# Altium schematic symbol library SYM-IC.SchLib: 136 symbols (part 6 of 7)
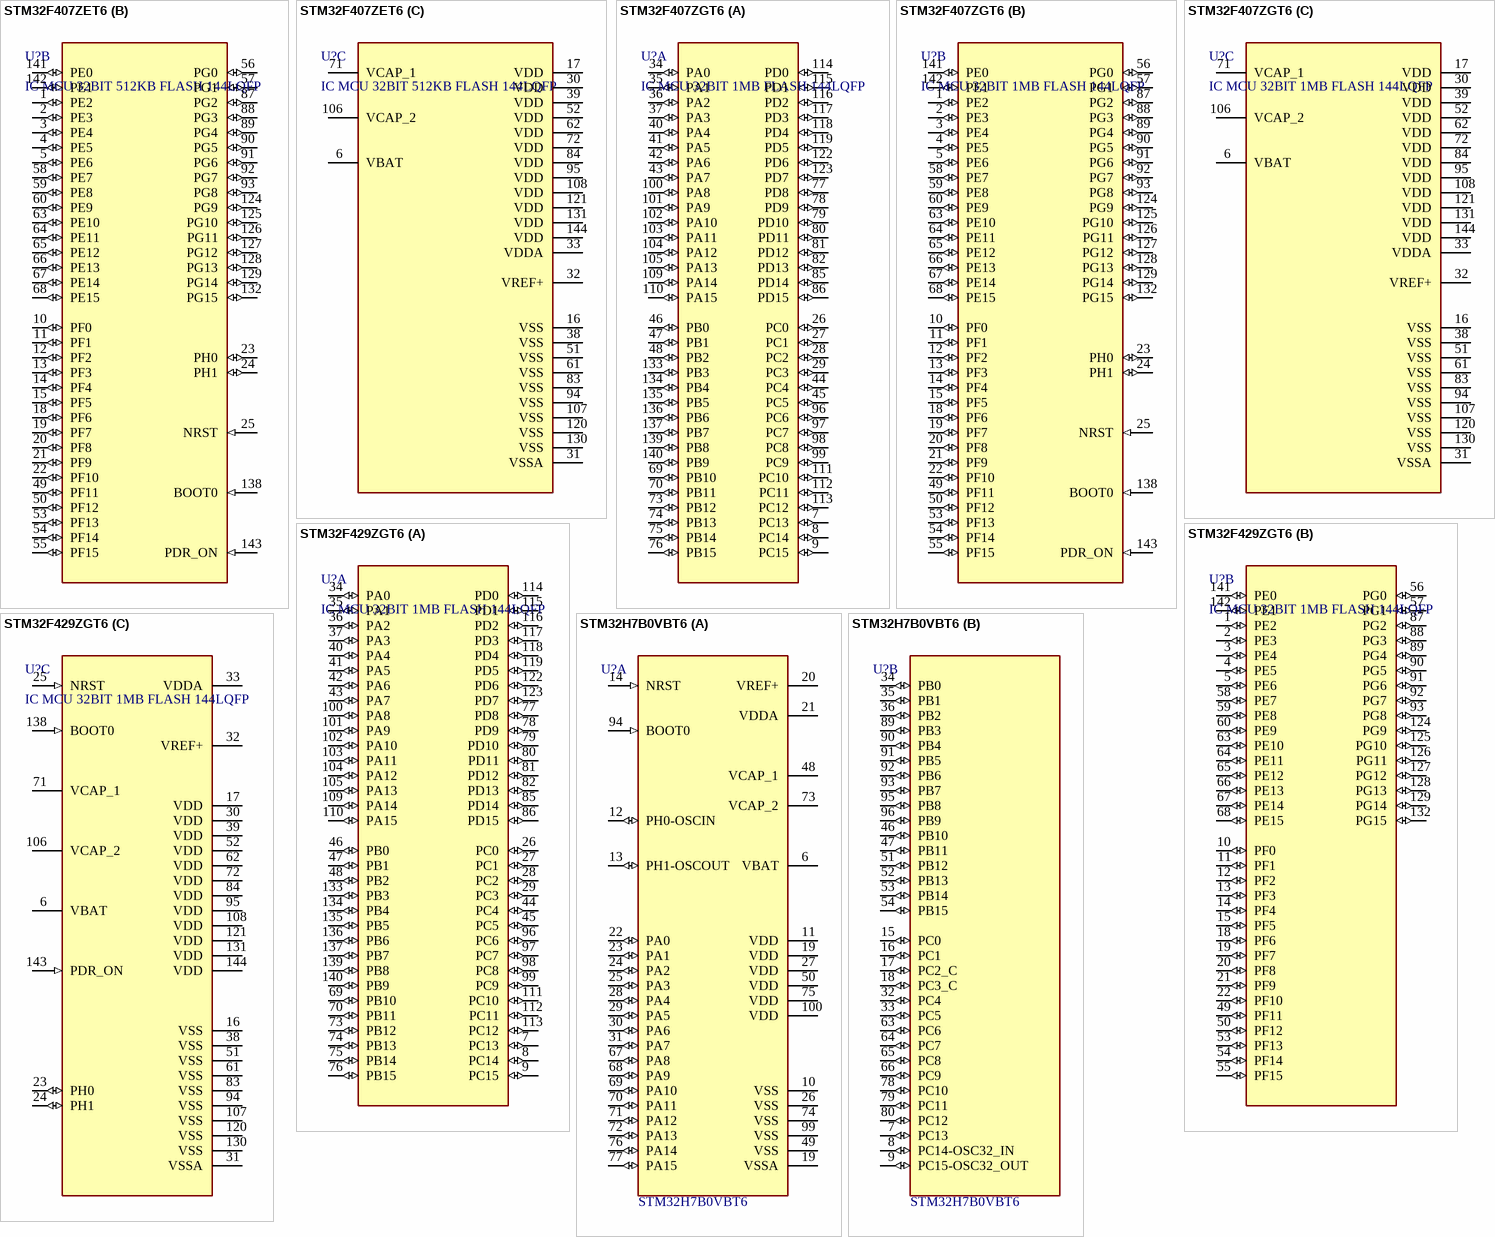
[diagram p22: symbols STM32F407ZET6 to STM32H7B0VBT6]

## STM32F429ZGT6
designator U?, comment IC MCU 32BIT 1MB FLASH 144LQFP
ARM® Cortex®-M4 STM32 F4 Microcontroller IC 32-Bit 180MHz 1MB (1M x 8) FLASH; Manufacturer: STMicroelectronics; Manufacturer Part Number: STM32F429ZGT6; Max Supply Voltage: 3.6V; Min Supply Voltage: 1.8V; Number of Timers/Counters: 14; RAM Size: 256KB; Number of I/Os: 114; Interface: I2C,SPI,USB,CAN,IrDA,UART,USART,LIN,EBI/EMI,SDIO,Ethernet,I2S; Max Power Dissipation: 500mW; Number of ADC Channels: 24; Oscillator Type: Internal; Data Bus Width: 32b; Number of USB Channels: 2; Number of SPI Channels: 6; Number of Ethernet Channels: 1; Number of I2C Channels: 3; Watchdog Timer: Yes; Number of UART Channels: 4; Peripherals: Brown-out Detect/Reset,POR,PWM,WDT,DMA,LCD; Core Architecture: ARM; Supplier 1: Digi-Key; RoHS: Yes; Category: Microcontrollers; Pricing 1: 1=19/60000, 10=18/00900, 60=17/26250, 120=15/55183 (USD); Case/Package: LQFP; Number of Pins: 144; Min Operating Temperature: -40°C; Max Operating Temperature: 85°C; Package Quantity: 360; Packaging: Tray; Frequency: 180MHz; Max Frequency: 180MHz; Number of Programmable I/O: 114; Memory Type: FLASH; Memory Size: 1MB; Length: 20.2mm; Width: 20.2mm; Height: 1.45mm; Radiation Hardening: No; REACH SVHC: No SVHC; Lead Free: Lead Free; RoHS Compliant: Yes; ComponentLink1URL: https://datasheet.ciiva.com/24182/dm00071990-24182832.pdf?src-supplier=Future+Electronics; ComponentLink1Description: https://datasheet.ciiva.com/24182/dm00071990-24182832.pdf?src-supplier=Future+Electronics; ComponentLink2URL: https://datasheet.ciiva.com/29719/dm00053488-29719336.pdf?src-supplier=Digi-Key; ComponentLink2Description: https://datasheet.ciiva.com/29719/dm00053488-29719336.pdf?src-supplier=Digi-Key; ComponentLink3URL: https://datasheet.ciiva.com/29987/dm00071990-29987069.pdf?src-supplier=Avnet; ComponentLink3Description: https://datasheet.ciiva.com/29987/dm00071990-29987069.pdf?src-supplier=Avnet; Supplier Part Number 1: 497-17461-ND
footprint TSQFP50P2200X2200X160-144N (TSQFP, 144-Leads, Body 20/00x20/00mm, Pitch 0/50mm, IPC Medium Density)
part A pins: 7 PC13 (io), 8 PC14 (io), 9 PC15 (io), 26 PC0 (io), 27 PC1 (io), 28 PC2 (io), 29 PC3 (io), 34 PA0 (io), 35 PA1 (io), 36 PA2 (io), 37 PA3 (io), 40 PA4 (io), 41 PA5 (io), 42 PA6 (io), 43 PA7 (io), 44 PC4 (io), 45 PC5 (io), 46 PB0 (io), 47 PB1 (io), 48 PB2 (io), 69 PB10 (io), 70 PB11 (io), 73 PB12 (io), 74 PB13 (io), 75 PB14 (io), 76 PB15 (io), 77 PD8 (io), 78 PD9 (io), 79 PD10 (io), 80 PD11 (io), 81 PD12 (io), 82 PD13 (io), 85 PD14 (io), 86 PD15 (io), 96 PC6 (io), 97 PC7 (io), 98 PC8 (io), 99 PC9 (io), 100 PA8 (io), 101 PA9 (io), 102 PA10 (io), 103 PA11 (io), 104 PA12 (io), 105 PA13 (io), 109 PA14 (io), 110 PA15 (io), 111 PC10 (io), 112 PC11 (io), 113 PC12 (io), 114 PD0 (io), 115 PD1 (io), 116 PD2 (io), 117 PD3 (io), 118 PD4 (io), 119 PD5 (io), 122 PD6 (io), 123 PD7 (io), 133 PB3 (io), 134 PB4 (io), 135 PB5 (io), 136 PB6 (io), 137 PB7 (io), 139 PB8 (io), 140 PB9 (io)
part B pins: 1 PE2 (io), 2 PE3 (io), 3 PE4 (io), 4 PE5 (io), 5 PE6 (io), 10 PF0 (io), 11 PF1 (io), 12 PF2 (io), 13 PF3 (io), 14 PF4 (io), 15 PF5 (io), 18 PF6 (io), 19 PF7 (io), 20 PF8 (io), 21 PF9 (io), 22 PF10 (io), 49 PF11 (io), 50 PF12 (io), 53 PF13 (io), 54 PF14 (io), 55 PF15 (io), 56 PG0 (io), 57 PG1 (io), 58 PE7 (io), 59 PE8 (io), 60 PE9 (io), 63 PE10 (io), 64 PE11 (io), 65 PE12 (io), 66 PE13 (io), 67 PE14 (io), 68 PE15 (io), 87 PG2 (io), 88 PG3 (io), 89 PG4 (io), 90 PG5 (io), 91 PG6 (io), 92 PG7 (io), 93 PG8 (io), 124 PG9 (io), 125 PG10 (io), 126 PG11 (io), 127 PG12 (io), 128 PG13 (io), 129 PG14 (io), 132 PG15 (io), 141 PE0 (io), 142 PE1 (io)
part C pins: 6 VBAT (power), 16 VSS (power), 17 VDD (power), 23 PH0 (io), 24 PH1 (io), 25 NRST (in), 30 VDD (power), 31 VSSA (power), 32 VREF+ (power), 33 VDDA (power), 38 VSS (power), 39 VDD (power), 51 VSS (power), 52 VDD (power), 61 VSS (power), 62 VDD (power), 71 VCAP_1 (power), 72 VDD (power), 83 VSS (power), 84 VDD (power), 94 VSS (power), 95 VDD (power), 106 VCAP_2 (power), 107 VSS (power), 108 VDD (power), 120 VSS (power), 121 VDD (power), 130 VSS (power), 131 VDD (power), 138 BOOT0 (in), 143 PDR_ON (in), 144 VDD (power)

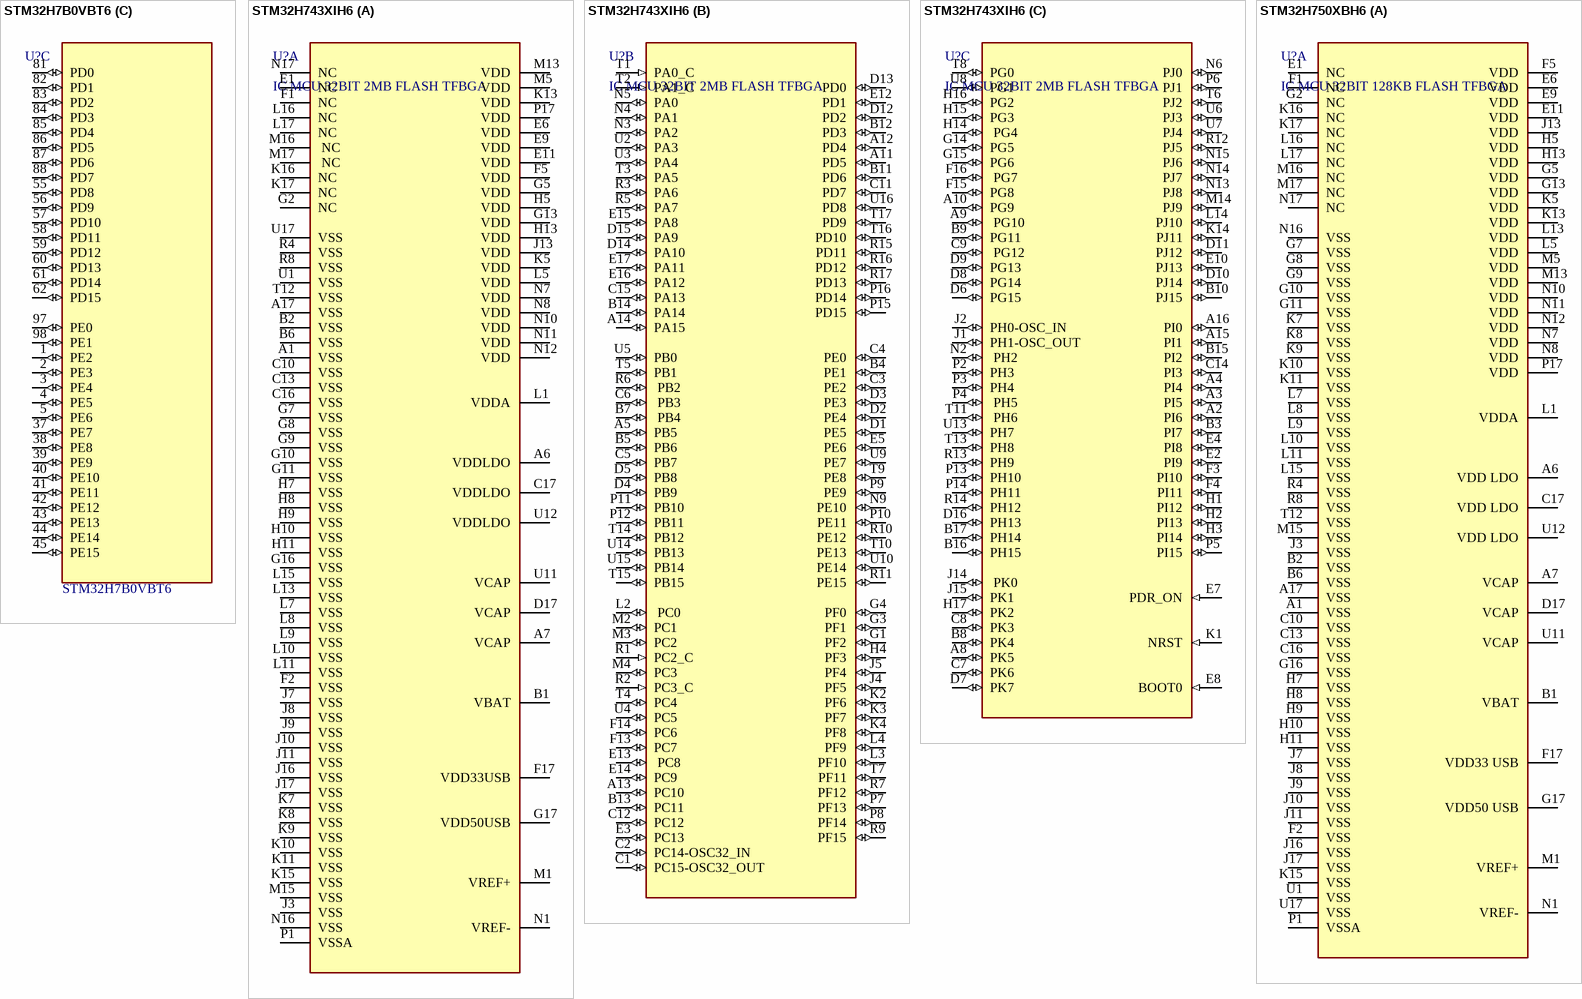
[diagram p9: symbols STM32H7B0VBT6 to STM32H750XBH6]

## STM32H7B0VBT6
designator U?, comment Manufacturer Part Number: STM32H7B0VBT6  (hidden comment: IC MCU 32BIT 128KB FLASH 100LQFP)
MCU 32-bit ARM Cortex M7 RISC 128KB Flash 1.8V/2.5V/3.3V Medical 100-Pin LQFP Tray/Tube; Manufacturer: STMicroelectronics; Supplier 1: Digi-Key; RoHS: Yes; Category: Microcontrollers; Pricing 1: 1=12/27000, 10=11/08500, 25=10/56960, 90=9/17756, 270=8/76507, 450=7/99167, 990=7/03080 (USD); Supplier Part Number 1: 497-STM32H7B0VBT6-ND
footprint TSQFP50P1600X1600X160-100N (TSQFP, 100-Leads, Body 14/00x14/00mm, Pitch 0/50mm, IPC Medium Density)
part A pins: 6 VBAT (power), 10 VSS (power), 11 VDD (power), 12 PH0-OSCIN (io), 13 PH1-OSCOUT (io), 14 NRST (in), 19 VDD (power), 19 VSSA (power), 20 VREF+ (power), 21 VDDA (power), 22 PA0 (io), 23 PA1 (io), 24 PA2 (io), 25 PA3 (io), 26 VSS (power), 27 VDD (power), 28 PA4 (io), 29 PA5 (io), 30 PA6 (io), 31 PA7 (io), 48 VCAP_1 (power), 49 VSS (power), 50 VDD (power), 67 PA8 (io), 68 PA9 (io), 69 PA10 (io), 70 PA11 (io), 71 PA12 (io), 72 PA13 (io), 73 VCAP_2 (power), 74 VSS (power), 75 VDD (power), 76 PA14 (io), 77 PA15 (io), 94 BOOT0 (in), 99 VSS (power), 100 VDD (power)
part B pins: 7 PC13 (io), 8 PC14-OSC32_IN (io), 9 PC15-OSC32_OUT (io), 15 PC0 (io), 16 PC1 (io), 17 PC2_C (io), 18 PC3_C (io), 32 PC4 (io), 33 PC5 (io), 34 PB0 (io), 35 PB1 (io), 36 PB2 (io), 46 PB10 (io), 47 PB11 (io), 51 PB12 (io), 52 PB13 (io), 53 PB14 (io), 54 PB15 (io), 63 PC6 (io), 64 PC7 (io), 65 PC8 (io), 66 PC9 (io), 78 PC10 (io), 79 PC11 (io), 80 PC12 (io), 89 PB3 (io), 90 PB4 (io), 91 PB5 (io), 92 PB6 (io), 93 PB7 (io), 95 PB8 (io), 96 PB9 (io)
part C pins: 1 PE2 (io), 2 PE3 (io), 3 PE4 (io), 4 PE5 (io), 5 PE6 (io), 37 PE7 (io), 38 PE8 (io), 39 PE9 (io), 40 PE10 (io), 41 PE11 (io), 42 PE12 (io), 43 PE13 (io), 44 PE14 (io), 45 PE15 (io), 55 PD8 (io), 56 PD9 (io), 57 PD10 (io), 58 PD11 (io), 59 PD12 (io), 60 PD13 (io), 61 PD14 (io), 62 PD15 (io), 81 PD0 (io), 82 PD1 (io), 83 PD2 (io), 84 PD3 (io), 85 PD4 (io), 86 PD5 (io), 87 PD6 (io), 88 PD7 (io), 97 PE0 (io), 98 PE1 (io)

## STM32H743XIH6
designator U?, comment IC MCU 32BIT 2MB FLASH TFBGA
MCU 32-Bit STM32H743XI ARM Cortex M7 RISC 2MB Flash 1.62V to 3.6V 265-Pin TFBGA Tray; Manufacturer: STMicroelectronics; Manufacturer Part Number: STM32H743XIH6; Interface: I2C,SPI,USB,Ethernet,IrDA,MMC,SDIO,SD,UART,USART,EBI/EMI; Peripherals: Brown-out Detect/Reset,POR,PWM,WDT,DMA,LCD; Frequency: 400MHz; Number of I/Os: 168; Oscillator Type: Internal; Supplier 1: Digi-Key; RoHS: Yes; Category: Microcontrollers; Pricing 1: 1=20/95000, 10=19/25700, 25=18/45880, 119=16/62958 (USD); Case/Package: TFBGA; Min Operating Temperature: -40°C; Max Operating Temperature: 85°C; Memory Type: FLASH; Packaging: Tray; Core Architecture: ARM; Memory Size: 2MB; RoHS Compliant: Yes; ComponentLink1URL: http://www.farnell.com/datasheets/2551152.pdf?src-supplier=Farnell; ComponentLink1Description: http://www.farnell.com/datasheets/2551152.pdf?src-supplier=Farnell; ComponentLink2URL: http://www.st.com/content/ccc/resource/technical/document/datasheet/group3/23/be/db/eb/29/39/4b/eb/DM00387108/files/DM00387108.pdf/jcr:content/translations/en.DM00387108.pdf?src-supplier=Digi-Key; ComponentLink2Description: http://www.st.com/content/ccc/resource/technical/document/datasheet/group3/23/be/db/eb/29/39/4b/eb/DM00387108/files/DM00387108.pdf/jcr:content/translations/en.DM00387108.pdf?src-supplier=Digi-Key; ComponentLink3URL: http://www.farnell.com/datasheets/2551152.pdf?src-supplier=Element14; ComponentLink3Description: http://www.farnell.com/datasheets/2551152.pdf?src-supplier=Element14; ComponentLink4URL: http://www.farnell.com/datasheets/2551152.pdf?src-supplier=Newark; ComponentLink4Description: http://www.farnell.com/datasheets/2551152.pdf?src-supplier=Newark; Supplier Part Number 1: 497-17724-ND
footprint BGA265C80P17X17_1400X1400X110 (BGA, 265-Leads, Body 14/00x14/00mmx1/10mm, Pitch 0/80mm)
part A pins: A1 VSS (power), A6 VDDLDO (power), A7 VCAP (power), A17 VSS (power), B1 VBAT (power), B2 VSS (power), B6 VSS (power), C10 VSS (power), C13 VSS (power), C16 VSS (power), C17 VDDLDO (power), D17 VCAP (power), E1 NC (power), E6 VDD (power), E9 VDD (power), E11  VDD (power), F1 NC (power), F2 VSS (power), F5 VDD (power), F17 VDD33USB (power), G2 NC (power), G5 VDD (power), G7 VSS (power), G8 VSS (power), G9 VSS (power), G10 VSS (power), G11 VSS (power), G13 VDD (power), G16 VSS (power), G17 VDD50USB (power), H5 VDD (power), H7 VSS (power), H8 VSS (power), H9 VSS (power), H10 VSS (power), H11 VSS (power), H13 VDD (power), J3 VSS (power), J7 VSS (power), J8 VSS (power), J9 VSS (power), J10 VSS (power), J11 VSS (power), J13 VDD (power), J16 VSS (power), J17 VSS (power), K5 VDD (power), K7 VSS (power), K8 VSS (power), K9 VSS (power), K10 VSS (power), K11 VSS (power), K13 VDD (power), K15 VSS (power), K16 NC (power), K17 NC (power), L1 VDDA (power), L5 VDD (power), L7 VSS (power), L8 VSS (power), L9 VSS (power), L10 VSS (power), L11 VSS (power), L13 VSS (power), L15 VSS (power), L16 NC (power), L17 NC (power), M1 VREF+ (power), M5 VDD (power), M13 VDD (power), M15 VSS (power), M16  NC (power), M17  NC (power), N1 VREF- (power), N7 VDD (power), N8 VDD (power), N10 VDD (power), N11 VDD (power), N12 VDD (power), N16 VSS (power), N17 NC (power), P1 VSSA (power), P17  VDD (power), R4 VSS (power), R8 VSS (power), T12 VSS (power), U1 VSS (power), U11 VCAP (power), U12 VDDLDO (power), U17 VSS (power)
part B pins: A5 PB5 (io), A11 PD5 (io), A12 PD4 (io), A13 PC10 (io), A14 PA15 (io), B4 PE1 (io), B5 PB6 (io), B7  PB4 (io), B11 PD6 (io), B12 PD3 (io), B13 PC11 (io), B14 PA14 (io), C1 PC15-OSC32_OUT (io), C2 PC14-OSC32_IN (io), C3 PE2 (io), C4 PE0 (io), C5 PB7 (io), C6  PB3 (io), C11 PD7 (io), C12 PC12 (io), C15 PA13 (io), D1 PE5 (io), D2 PE4 (io), D3 PE3 (io), D4 PB9 (io), D5 PB8 (io), D12 PD2 (io), D13 PD0 (io), D14 PA10 (io), D15 PA9 (io), E3 PC13 (io), E5  PE6 (io), E12 PD1 (io), E13  PC8 (io), E14 PC9 (io), E15 PA8 (io), E16 PA12 (io), E17 PA11 (io), F13 PC7 (io), F14 PC6 (io), G1 PF2 (io), G3  PF1 (io), G4 PF0 (io), H4 PF3 (io), J4 PF5 (io), J5 PF4 (io), K2 PF6 (io), K3 PF7 (io), K4 PF8 (io), L2  PC0 (io), L3 PF10 (io), L4 PF9 (io), M2 PC1 (io), M3 PC2 (io), M4 PC3 (io), N3 PA2 (io), N4 PA1 (io), N5 PA0 (io), N9 PE10 (io), P7 PF13 (io), P8  PF14 (io), P9  PE9 (io), P10 PE11 (io), P11 PB10 (io), P12 PB11 (io), P15 PD15 (io), P16 PD14 (io), R1 PC2_C (in), R2 PC3_C (in), R3 PA6 (io), R5 PA7 (io), R6  PB2 (io), R7 PF12 (io), R9  PF15 (io), R10 PE12 (io), R11 PE15 (io), R15  PD11 (io), R16 PD12 (io), R17 PD13 (io), T1 PA0_C (in), T2 PA1_C (in), T3 PA5 (io), T4 PC4 (io), T5 PB1 (io), T7  PF11 (io), T9 PE8 (io), T10 PE13 (io), T14 PB12 (io), T15 PB15 (io), T16 PD10 (io), T17  PD9 (io), U2 PA3 (io), U3 PA4 (io), U4 PC5 (io), U5 PB0 (io), U9 PE7 (io), U10 PE14 (io), U14 PB13 (io), U15 PB14 (io), U16 PD8 (io)
part C pins: A2 PI6 (io), A3 PI5 (io), A4 PI4 (io), A8 PK5 (io), A9  PG10 (io), A10 PG9 (io), A15 PI1 (io), A16 PI0 (io), B3 PI7 (io), B8 PK4 (io), B9 PG11 (io), B10 PJ15 (io), B15  PI2 (io), B16 PH15 (io), B17 PH14 (io), C7 PK6 (io), C8 PK3 (io), C9  PG12 (io), C14 PI3 (io), D6 PG15 (io), D7 PK7 (io), D8 PG14 (io), D9 PG13 (io), D10 PJ14 (io), D11 PJ12 (io), D16 PH13 (io), E2 PI9 (io), E4 PI8 (io), E7 PDR_ON (in), E8 BOOT0 (in), E10 PJ13 (io), F3  PI10 (io), F4 PI11 (io), F15 PG8 (io), F16  PG7 (io), G14 PG5 (io), G15 PG6 (io), H1 PI12 (io), H2 PI13 (io), H3 PI14 (io), H14  PG4 (io), H15 PG3 (io), H16 PG2 (io), H17 PK2 (io), J1 PH1-OSC_OUT (io), J2 PH0-OSC_IN (io), J14  PK0 (io), J15 PK1 (io), K1 NRST (in), K14 PJ11 (io), L14 PJ10 (io), M14 PJ9 (io), N2  PH2 (io), N6 PJ0 (io), N13 PJ8 (io), N14 PJ7 (io), N15 PJ6 (io), P2 PH3 (io), P3 PH4 (io), P4  PH5 (io), P5 PI15 (io), P6  PJ1 (io), P13 PH10 (io), P14 PH11 (io), R12 PJ5 (io), R13 PH9 (io), R14 PH12 (io), T6 PJ2 (io), T8 PG0 (io), T11  PH6 (io), T13 PH8 (io), U6 PJ3 (io), U7 PJ4 (io), U8 PG1 (io), U13 PH7 (io)

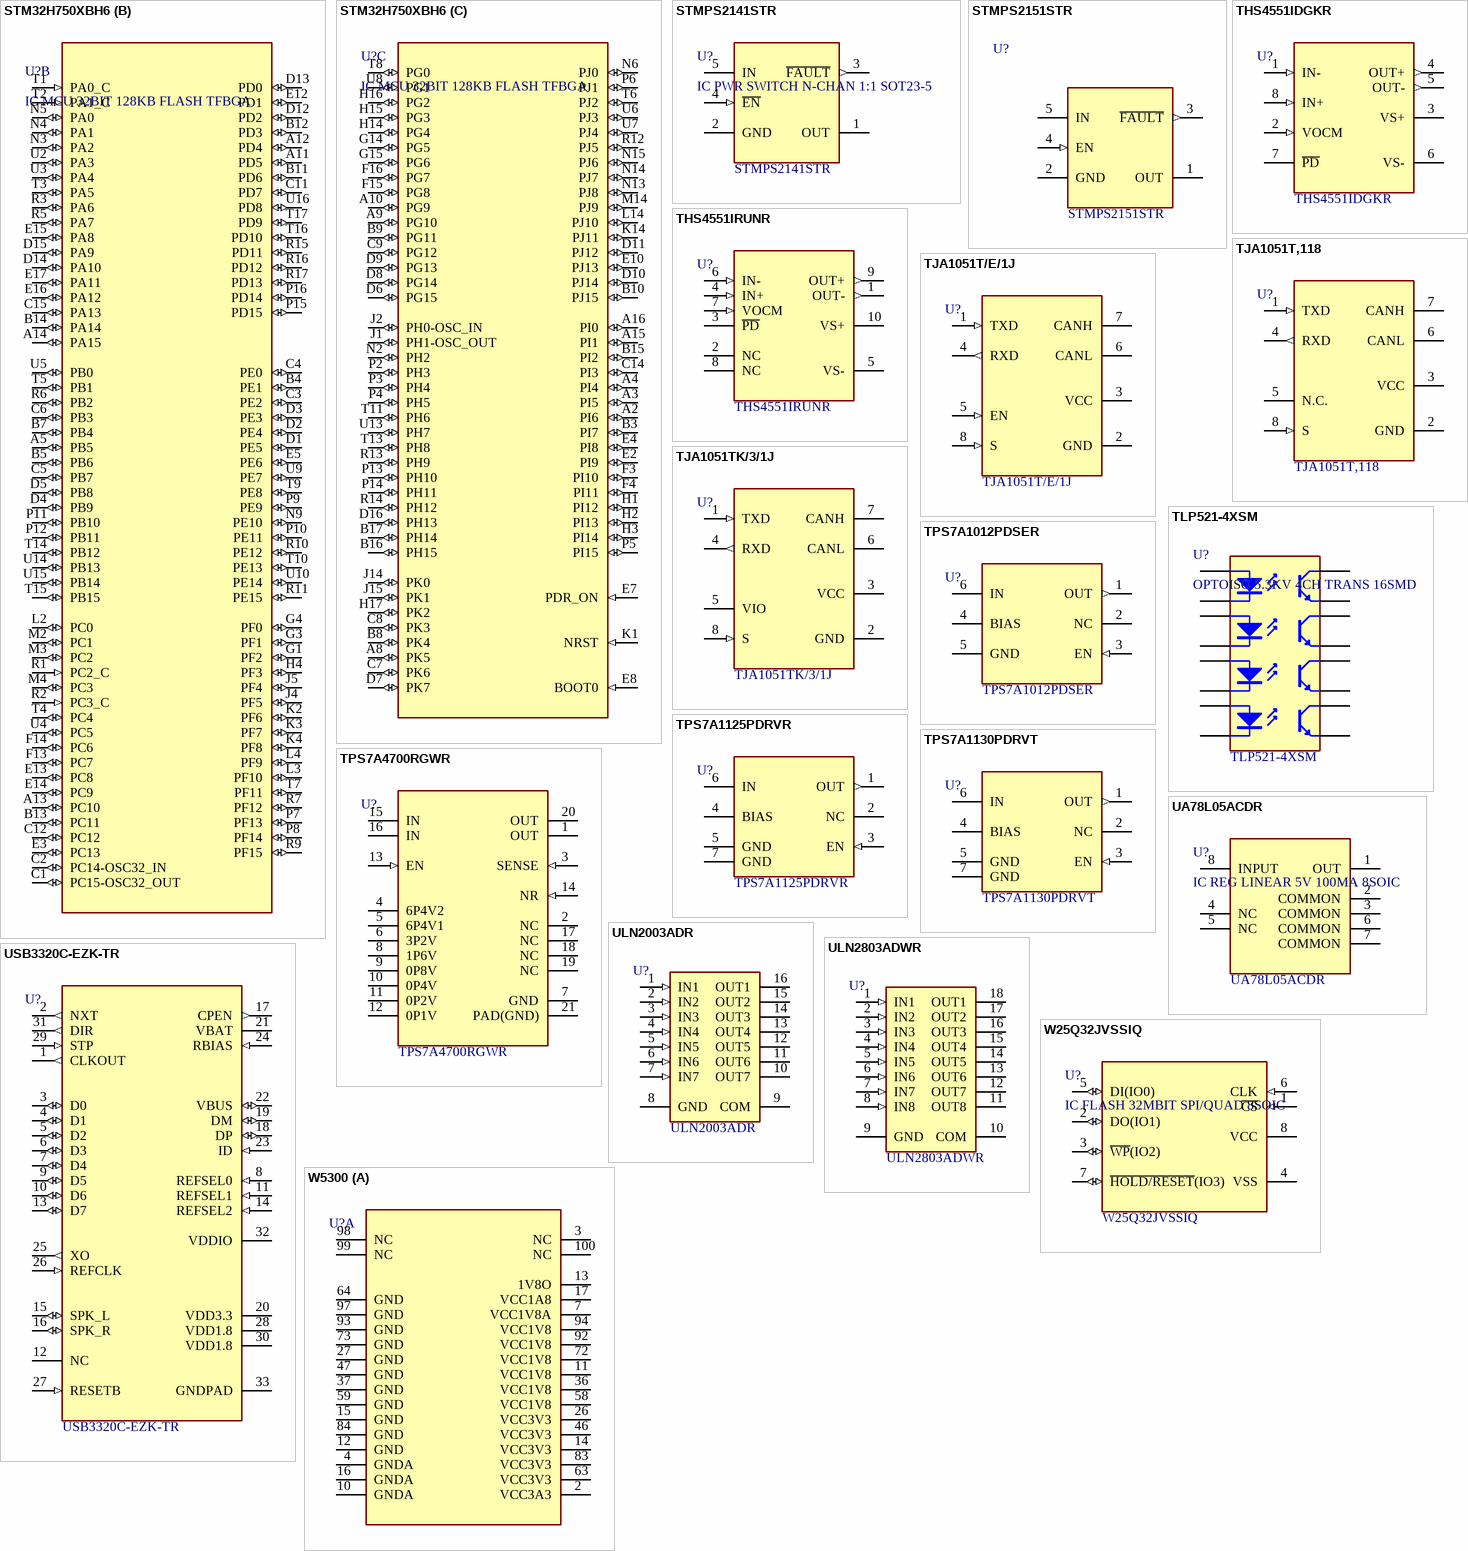
[diagram p10: symbols STM32H750XBH6 to W5300]

## STM32H750XBH6
designator U?, comment IC MCU 32BIT 128KB FLASH TFBGA
MCU 32-Bit ARM Cortex-M7F RISC 128KB Flash 1.62V to 3.6V 240-Pin TFBGA Tray; Manufacturer: STMicroelectronics; Manufacturer Part Number: STM32H750XBH6; Interface: I2C,SPI,USB,Ethernet,IrDA,MMC,SDIO,SD,UART,USART,EBI/EMI; Peripherals: Brown-out Detect/Reset,POR,PWM,WDT,DMA,LCD; Frequency: 400MHz; Number of I/Os: 168; Oscillator Type: Internal; Supplier 1: Digi-Key; RoHS: Yes; Category: Microcontrollers; Pricing 1: 1=13/62000, 10=12/30700, 25=11/73480, 119=10/18916, 238=9/73122, 476=9/54040 (USD); Case/Package: TFBGA; Min Operating Temperature: -40°C; Max Operating Temperature: 85°C; Packaging: Tray; Memory Type: FLASH; Core Architecture: ARM; Memory Size: 128KB; ComponentLink1URL: https://www.st.com/resource/en/errata_sheet/dm00399555.pdf?src-supplier=Digi-Key; ComponentLink1Description: https://www.st.com/resource/en/errata_sheet/dm00399555.pdf?src-supplier=Digi-Key; Supplier Part Number 1: 497-18111-ND
footprint BGA265C80P17X17_1400X1400X110 (BGA, 265-Leads, Body 14/00x14/00mmx1/10mm, Pitch 0/80mm)
part A pins: A1 VSS (power), A6 VDD LDO (power), A7 VCAP (power), A17 VSS (power), B1 VBAT (power), B2 VSS (power), B6 VSS (power), C10 VSS (power), C13 VSS (power), C16 VSS (power), C17 VDD LDO (power), D17 VCAP (power), E1 NC, E6 VDD (power), E9 VDD (power), E11 VDD (power), F1 NC, F2 VSS (power), F5 VDD (power), F17 VDD33 USB (power), G2 NC, G5 VDD (power), G7 VSS (power), G8 VSS (power), G9 VSS (power), G10 VSS (power), G11 VSS (power), G13 VDD (power), G16 VSS (power), G17 VDD50 USB (power), H5 VDD (power), H7 VSS (power), H8 VSS (power), H9 VSS (power), H10 VSS (power), H11 VSS (power), H13 VDD (power), J3 VSS (power), J7 VSS (power), J8 VSS (power), J9 VSS (power), J10 VSS (power), J11 VSS (power), J13 VDD (power), J16 VSS (power), J17 VSS (power), K5 VDD (power), K7 VSS (power), K8 VSS (power), K9 VSS (power), K10 VSS (power), K11 VSS (power), K13 VDD (power), K15 VSS (power), K16 NC, K17 NC, L1 VDDA (power), L5 VDD (power), L7 VSS (power), L8 VSS (power), L9 VSS (power), L10 VSS (power), L11 VSS (power), L13 VDD (power), L15 VSS (power), L16 NC, L17 NC, M1 VREF+ (power), M5 VDD (power), M13 VDD (power), M15 VSS (power), M16 NC, M17 NC, N1 VREF- (power), N7 VDD (power), N8 VDD (power), N10 VDD (power), N11 VDD (power), N12 VDD (power), N16 VSS (power), N17 NC, P1 VSSA (power), P17 VDD (power), R4 VSS (power), R8 VSS (power), T12 VSS (power), U1 VSS (power), U11 VCAP (power), U12 VDD LDO (power), U17 VSS (power)
part B pins: A5 PB5 (io), A11 PD5 (io), A12 PD4 (io), A13 PC10 (io), A14 PA15 (io), B4 PE1 (io), B5 PB6 (io), B7 PB4 (io), B11 PD6 (io), B12 PD3 (io), B13 PC11 (io), B14 PA14 (io), C1 PC15-OSC32_OUT (io), C2 PC14-OSC32_IN (io), C3 PE2 (io), C4 PE0 (io), C5 PB7 (io), C6 PB3 (io), C11 PD7 (io), C12 PC12 (io), C15 PA13 (io), D1 PE5 (io), D2 PE4 (io), D3 PE3 (io), D4 PB9 (io), D5 PB8 (io), D12 PD2 (io), D13 PD0 (io), D14 PA10 (io), D15 PA9 (io), E3 PC13 (io), E5 PE6 (io), E12 PD1 (io), E13 PC8 (io), E14 PC9 (io), E15 PA8 (io), E16 PA12 (io), E17 PA11 (io), F13 PC7 (io), F14 PC6 (io), G1 PF2 (io), G3 PF1 (io), G4 PF0 (io), H4 PF3 (io), J4 PF5 (io), J5 PF4 (io), K2 PF6 (io), K3 PF7 (io), K4 PF8 (io), L2 PC0 (io), L3 PF10 (io), L4 PF9 (io), M2 PC1 (io), M3 PC2 (io), M4 PC3 (io), N3 PA2 (io), N4 PA1 (io), N5 PA0 (io), N9 PE10 (io), P7 PF13 (io), P8 PF14 (io), P9 PE9 (io), P10 PE11 (io), P11 PB10 (io), P12 PB11 (io), P15 PD15 (io), P16 PD14 (io), R1 PC2_C (in), R2 PC3_C (in), R3 PA6 (io), R5 PA7 (io), R6 PB2 (io), R7 PF12 (io), R9 PF15 (io), R10 PE12 (io), R11 PE15 (io), R15 PD11 (io), R16 PD12 (io), R17 PD13 (io), T1 PA0_C (in), T2 PA1_C (in), T3 PA5 (io), T4 PC4 (io), T5 PB1 (io), T7 PF11 (io), T9 PE8 (io), T10 PE13 (io), T14 PB12 (io), T15 PB15 (io), T16 PD10 (io), T17 PD9 (io), U2 PA3 (io), U3 PA4 (io), U4 PC5 (io), U5 PB0 (io), U9 PE7 (io), U10 PE14 (io), U14 PB13 (io), U15 PB14 (io), U16 PD8 (io)
part C pins: A2 PI6 (io), A3 PI5 (io), A4 PI4 (io), A8 PK5 (io), A9 PG10 (io), A10 PG9 (io), A15 PI1 (io), A16 PI0 (io), B3 PI7 (io), B8 PK4 (io), B9 PG11 (io), B10 PJ15 (io), B15 PI2 (io), B16 PH15 (io), B17 PH14 (io), C7 PK6 (io), C8 PK3 (io), C9 PG12 (io), C14 PI3 (io), D6 PG15 (io), D7 PK7 (io), D8 PG14 (io), D9 PG13 (io), D10 PJ14 (io), D11 PJ12 (io), D16 PH13 (io), E2 PI9 (io), E4 PI8 (io), E7 PDR_ON (in), E8 BOOT0 (in), E10 PJ13 (io), F3 PI10 (io), F4 PI11 (io), F15 PG8 (io), F16 PG7 (io), G14 PG5 (io), G15 PG6 (io), H1 PI12 (io), H2 PI13 (io), H3 PI14 (io), H14 PG4 (io), H15 PG3 (io), H16 PG2 (io), H17 PK2 (io), J1 PH1-OSC_OUT (io), J2 PH0-OSC_IN (io), J14 PK0 (io), J15 PK1 (io), K1 NRST (in), K14 PJ11 (io), L14 PJ10 (io), M14 PJ9 (io), N2 PH2 (io), N6 PJ0 (io), N13 PJ8 (io), N14 PJ7 (io), N15 PJ6 (io), P2 PH3 (io), P3 PH4 (io), P4 PH5 (io), P5 PI15 (io), P6 PJ1 (io), P13 PH10 (io), P14 PH11 (io), R12 PJ5 (io), R13 PH9 (io), R14 PH12 (io), T6 PJ2 (io), T8 PG0 (io), T11 PH6 (io), T13 PH8 (io), U6 PJ3 (io), U7 PJ4 (io), U8 PG1 (io), U13 PH7 (io)

## STMPS2141STR
designator U?, comment IC PWR SWITCH N-CHAN 1:1 SOT23-5  Manufacturer Part Number: STMPS2141STR
STMPS Series 1 Channel 5.5 V 500 mA 200 mOhm High Side Power Switch - SOT-23-5; Manufacturer: STMicroelectronics; Nominal Supply Current: 40uA; Max Power Dissipation: 32.5mW; Number of Outputs: 1; Max Input Voltage: 5.5V; Min Input Voltage: 2.7V; Output Current: 0A; Current Rating: 500mA; On-State Resistance: 120mR; Turn-On Delay Time: 5ms; Turn-Off Delay Time: 10ms; Interface: On/Off; Fault Protection: Over Temperature,Reverse Current; On-state Resistance-Max: 130MR; Supplier 1: Mouser; RoHS: Yes; Category: Hot Swap Controllers; Pricing 1: 1=1/38000, 10=1/25000, 50=1/19000, 100=0/97000, 1000=0/63700, 10000=0/63600 (USD); Mount: Surface Mount; Case/Package: SOT-23-5; Number of Pins: 5; Min Operating Temperature: -40°C; Max Operating Temperature: 85°C; Packaging: Tape and Reel; Package Quantity: 3000; Number of Inputs: 1; Max Supply Current: 40uA; Max Output Current: 500mA; Voltage: 5.5V; Current: 500mA; Power Dissipation: 32.5mW; Operating Supply Voltage: 5.5V; Output Configuration: High Side; Series: STMPS2141; Supply Current: 40uA; Rated Current-Max: 500mA; Length: 3mm; Width: 1.75mm; Height: 1.3mm; Radiation Hardening: No; Lead Free: Lead Free; RoHS Compliant: Yes; ComponentLink1URL: https://datasheet.ciiva.com/15108/getdatasheetpartid-160072-15108990.pdf?src-supplier=Verical; ComponentLink1Description: https://datasheet.ciiva.com/15108/getdatasheetpartid-160072-15108990.pdf?src-supplier=Verical; ComponentLink2URL: https://datasheet.ciiva.com/4923/cd00167470-4923447.pdf?src-supplier=Mouser; ComponentLink2Description: https://datasheet.ciiva.com/4923/cd00167470-4923447.pdf?src-supplier=Mouser; ComponentLink3URL: https://datasheet.ciiva.com/1962/cd00167470-1962472.pdf?src-supplier=Digi-Key; ComponentLink3Description: https://datasheet.ciiva.com/1962/cd00167470-1962472.pdf?src-supplier=Digi-Key; ComponentLink4URL: https://datasheet.ciiva.com/1962/cd00167470-1962473.pdf?src-supplier=Digi-Key; ComponentLink4Description: https://datasheet.ciiva.com/1962/cd00167470-1962473.pdf?src-supplier=Digi-Key; ComponentLink5URL: https://datasheet.ciiva.com/1962/cd00167470-1962474.pdf?src-supplier=Digi-Key; ComponentLink5Description: https://datasheet.ciiva.com/1962/cd00167470-1962474.pdf?src-supplier=Digi-Key; ComponentLink6URL: https://datasheet.ciiva.com/16491/cd00167470-16491245.pdf?src-supplier=Future+Electronics; ComponentLink6Description: https://datasheet.ciiva.com/16491/cd00167470-16491245.pdf?src-supplier=Future+Electronics; Supplier Part Number 1: 511-STMPS2141STR
footprint SOT95P280X145-5N (SOT23, 5-Leads, Body 2/90x2/80mm, Pitch 0/95mm, IPC Medium Density)
pins: 1 OUT (power), 2 GND (power), 3 ~{FAULT} (out), 4 ~{EN} (in), 5 IN (power)

## STMPS2151STR
designator U?, comment Manufacturer Part Number: STMPS2151STR  (hidden comment: IC PWR SWITCH N-CHAN 1:1 SOT23-5)
Power Switch/Driver 1:1 N-Channel 500mA SOT-23-5; Supplier 1: RSComponents; Supplier Part Number 1: 8805415P
footprint SOT95P280X145-5N (SOT23, 5-Leads, Body 2/90x2/80mm, Pitch 0/95mm, IPC Medium Density)
pins: 1 OUT (power), 2 GND (power), 3 ~{FAULT} (out), 4 EN (in), 5 IN (power)

## THS4551IDGKR
designator U?, comment Manufacturer Part Number: THS4551IDGKR  (hidden comment: IC OPAMP DIFF 1 CIRCUIT 8VSSOP)
Low Noise, Precision, 150MHz, Fully Differential Amplifier 8-VSSOP -40 to 125; Manufacturer: Texas Instruments; Number of Circuits: 1; Slew Rate: 220V/µs; Gain Bandwidth Product: 135MHz; Input Bias Current: 1uA; Input Offset Voltage (Vos): 50uV; Operating Supply Current: 1.35mA; Output Current per Channel: 65mA; Supplier 1: Digi-Key; RoHS: Yes; Category: Amplifiers - Op Amps, Buffer, Instrumentation; Pricing 1: 1=4/35000, 10=3/90300, 25=3/68960, 100=3/19760, 250=3/03368, 500=2/72210, 1000=2/70725 (USD); Mount: Surface Mount; Case/Package: VSSOP; Min Operating Temperature: -40°C; Max Operating Temperature: 125°C; Packaging: Tape and Reel; -3db Bandwidth: 150MHz; Number of Channels: 1; Lead Free: Lead Free; RoHS Compliant: Yes; ComponentLink1URL: http://www.ti.com/lit/ds/symlink/ths4551.pdf?src-supplier=Digi-Key; ComponentLink1Description: http://www.ti.com/lit/ds/symlink/ths4551.pdf?src-supplier=Digi-Key; ComponentLink2URL: http://www.ti.com/general/docs/suppproductinfo.tsp?distId=10&amp;gotoUrl=http%3A%2F%2Fwww.ti.com%2Flit%2Fgpn%2Fths4551&src-supplier=Digi-Key; ComponentLink2Description: http://www.ti.com/general/docs/suppproductinfo.tsp?distId=10&amp;gotoUrl=http%3A%2F%2Fwww.ti.com%2Flit%2Fgpn%2Fths4551&src-supplier=Digi-Key; Supplier Part Number 1: 296-47312-1-ND
footprint TSOP65P490X110-8N (TSOP, 8-Leads, Body 3/00x3/00mm, Pitch 0/65mm, IPC Medium Density)
pins: 1 IN- (in), 2 VOCM (in), 3 VS+ (power), 4 OUT+ (out), 5 OUT- (out), 6 VS- (power), 7 ~{PD} (power), 8 IN+ (in)

## THS4551IRUNR
designator U?, comment Manufacturer Part Number: THS4551IRUNR  (hidden comment: IC OPAMP DIFF 1 CIRCUIT 10QFN)
IC OPAMP DIFF 1 CIRCUIT 10QFN / Low-Noise, Precision, 150-MHz, Fully Differential Amplifier; Manufacturer: Texas Instruments; Number of Channels: 1; Slew Rate: 220V/µs; Gain Bandwidth Product: 135MHz; -3db Bandwidth: 150MHz; Input Bias Current: 1uA; Input Offset Voltage (Vos): 50uV; Operating Supply Current: 1.37mA; Output Current per Channel: 65mA; Supplier 1: Digi-Key; RoHS: Yes; Category: Amplifiers - Op Amps, Buffer, Instrumentation; Pricing 1: 1=4/35000, 10=3/90300, 25=3/68960, 100=3/19760, 250=3/03368, 500=2/72210, 1000=2/70725 (USD); Mount: Surface Mount; Case/Package: WFQFN; Number of Pins: 10; Min Operating Temperature: -40°C; Max Operating Temperature: 125°C; Packaging: Tape and Reel; Number of Circuits: 1; RoHS Compliant: Yes; ComponentLink1URL: http://www.ti.com/lit/pdf/slyt701?src-supplier=Digi-Key; ComponentLink1Description: http://www.ti.com/lit/pdf/slyt701?src-supplier=Digi-Key; ComponentLink2URL: http://www.ti.com/lit/ds/symlink/ths4551.pdf?src-supplier=Digi-Key; ComponentLink2Description: http://www.ti.com/lit/ds/symlink/ths4551.pdf?src-supplier=Digi-Key; Supplier Part Number 1: 296-48683-1-ND
footprint PQFN50P200X200X80-10N (PQFN, 10-Leads, Body 2/00x2/00mm, Pitch 0/50mm, IPC Medium Density)
pins: 1 OUT- (out), 2 NC, 3 ~{PD} (power), 4 IN+ (in), 5 VS- (power), 6 IN- (in), 7 VOCM (in), 8 NC, 9 OUT+ (out), 10 VS+ (power)

## TJA1051T,118
designator U?, comment Manufacturer Part Number: TJA1051T,118  (hidden comment: IC TRANSCEIVER HALF 1/1 8SO)
TJA1051 Series 5.5 V 5 Mbit/s Surface Mount High-Speed CAN Transceiver - SOIC-8; Manufacturer: NXP Semiconductors; Data Rate: 1Mbps; Min Supply Voltage: 4.5V; Max Supply Voltage: 5.5V; Operating Supply Voltage: 5V; Nominal Supply Current: 70mA; Number of Transceivers: 1; Supplier: Digi-Key; Supplier Part Number: 568-8683-1-ND; RoHS: Yes; Category: Interface ICs; Pricing: 1=1.64000, 10=1.46600, 25=1.39120, 100=1.14280, 250=1.06824, 500=0.94404, 1000=0.74529 (USD); Mounting Technology: Surface Mount; Case/Package: SO; Pins: 8; Min Operating Temperature: -40°C; Max Operating Temperature: 125°C; Package Quantity: 1; Packaging: Tape and Reel; Max Supply Current: 70mA; Interface: CAN; Series: -; Nominal Supply Voltage: 5.5V; Supply Current: 70mA; Radiation Hardening: No; Lead Free: Lead Free; RoHS Compliant: Yes; ComponentLink1URL: https://datasheet.ciiva.com/1767/tja1051-1767287.pdf?src-supplier=Digi-Key; ComponentLink1Description: https://datasheet.ciiva.com/1767/tja1051-1767287.pdf?src-supplier=Digi-Key; ComponentLink2URL: https://datasheet.ciiva.com/1767/tja1051-1767286.pdf?src-supplier=Digi-Key; ComponentLink2Description: https://datasheet.ciiva.com/1767/tja1051-1767286.pdf?src-supplier=Digi-Key; ComponentLink3URL: https://datasheet.ciiva.com/1767/tja1051-1767288.pdf?src-supplier=Digi-Key; ComponentLink3Description: https://datasheet.ciiva.com/1767/tja1051-1767288.pdf?src-supplier=Digi-Key; ComponentLink4URL: https://datasheet.ciiva.com/11212/tja1051-11212759.pdf?src-supplier=Avnet; ComponentLink4Description: https://datasheet.ciiva.com/11212/tja1051-11212759.pdf?src-supplier=Avnet; ComponentLink5URL: https://datasheet.ciiva.com/16199/tja1051-16199462.pdf?src-supplier=Future+Electronics; ComponentLink5Description: https://datasheet.ciiva.com/16199/tja1051-16199462.pdf?src-supplier=Future+Electronics; ComponentLink6URL: https://datasheet.ciiva.com/15149/getdatasheetpartid-248780-15149981.pdf?src-supplier=Verical; ComponentLink6Description: https://datasheet.ciiva.com/15149/getdatasheetpartid-248780-15149981.pdf?src-supplier=Verical
footprint SOIC127P600X175-8N (SOIC, 8-Leads, Body 4/89x3/90mm, Pitch 1/27mm, IPC Medium Density)
pins: 1 TXD (in), 2 GND (power), 3 VCC (power), 4 RXD (out), 5 N.C., 6 CANL, 7 CANH, 8 S (in)

## TJA1051T/E/1J
designator U?, comment Manufacturer Part Number: TJA1051T/E/1J  (hidden comment: IC TRANSCEIVER HALF 1/1 8SO)
TJA1051 Series 4.5 to 5.5 V 2 MBd SMT High-speed CAN transceiver - SOIC-8; Manufacturer: NXP Semiconductors; Data Rate: 5Mbps; Min Supply Voltage: 4.5V; Max Supply Voltage: 5.5V; Number of Transceivers: 1; Simplex/Duplex: Half Duplex; Receiver Hysteresis: 120mV; Max Supply Current: 70mA; Supplier 1: Digi-Key; RoHS: Yes; Category: Interface ICs; Pricing 1: 1=1/43000, 10=1/27500, 25=1/21000, 100=1/17280 (USD); Mount: Surface Mount; Case/Package: SOIC; Number of Pins: 8; Contact Plating: Gold,Silver; Min Operating Temperature: -40°C; Max Operating Temperature: 125°C; Packaging: Tape and Reel; Lead Free: Lead Free; RoHS Compliant: Yes; ComponentLink1URL: http://www.farnell.com/datasheets/2615709.pdf?src-supplier=Farnell; ComponentLink1Description: http://www.farnell.com/datasheets/2615709.pdf?src-supplier=Farnell; ComponentLink2URL: http://www.nxp.com/documents/data_sheet/TJA1051.pdf?src-supplier=Avnet; ComponentLink2Description: http://www.nxp.com/documents/data_sheet/TJA1051.pdf?src-supplier=Avnet; Supplier Part Number 1: 568-TJA1051T/E/1JCT-ND
footprint SOIC127P600X175-8N (SOIC, 8-Leads, Body 4/89x3/90mm, Pitch 1/27mm, IPC Medium Density)
pins: 1 TXD (in), 2 GND (power), 3 VCC (power), 4 RXD (out), 5 EN (in), 6 CANL, 7 CANH, 8 S (in)

## TJA1051TK/3/1J
designator U?, comment Manufacturer Part Number: TJA1051TK/3/1J  (hidden comment: IC TRANSCEIVER HALF 1/1 8HVSON)
TJA1051 Single 5 V 1 MBd Surface Mount High Speed CAN Transceiver - HVSON-8; Manufacturer: NXP Semiconductors; Data Rate: 5Mbps; Min Supply Voltage: 4.5V; Max Supply Voltage: 5.5V; Number of Transceivers: 1; Simplex/Duplex: Half Duplex; Receiver Hysteresis: 120mV; Max Supply Current: 70mA; Supplier 1: Digi-Key; RoHS: Yes; Category: Interface ICs; Pricing 1: 1=1/43000, 10=1/27500, 25=1/21000, 100=1/17280 (USD); Mount: Surface Mount; Number of Pins: 8; Contact Plating: Gold,Silver; Min Operating Temperature: -40°C; Max Operating Temperature: 150°C; Packaging: Tape and Reel; REACH SVHC: No SVHC; Lead Free: Lead Free; ComponentLink1URL: http://www.farnell.com/datasheets/1931504.pdf?src-supplier=Farnell; ComponentLink1Description: http://www.farnell.com/datasheets/1931504.pdf?src-supplier=Farnell; ComponentLink2URL: http://www.farnell.com/datasheets/1931504.pdf?src-supplier=Element14; ComponentLink2Description: http://www.farnell.com/datasheets/1931504.pdf?src-supplier=Element14; ComponentLink3URL: http://www.nxp.com/documents/data_sheet/TJA1051.pdf?src-supplier=Avnet; ComponentLink3Description: http://www.nxp.com/documents/data_sheet/TJA1051.pdf?src-supplier=Avnet; Supplier Part Number 1: 568-15202-1-ND
footprint SON65P300X100_HS-9N (SON, 8-Leads, Body 3/00x3/00mm, Pitch 0/65mm, Thermal Pad 2/40x1/59mm, IPC Medium Density)
pins: 1 TXD (in), 2 GND (power), 3 VCC (power), 4 RXD (out), 5 VIO (power), 6 CANL, 7 CANH, 8 S (in)

## TLP521-4XSM
designator U?, comment OPTOISO 5.3KV 4CH TRANS 16SMD  Manufacturer Part Number: TLP521-4XSM
Manufacturer: Isocom; Number of Channels: 4; Max Output Voltage: 55V; Forward Voltage: 1.15V; Collector Emitter Voltage (VCEO): 400mV; Supplier 1: Digi-Key; RoHS: Yes; Category: Optocouplers; Stock 1: 3322; Pricing 1: 1=1/71000, 10=1/08200, 100=0/80030, 500=0/73542, 1000=0/60564, 2000=0/57536, 5000=0/56238, 10000=0/54940 (USD); Mount: Surface Mount; Case/Package: SMD/SMT; Min Operating Temperature: -30°C; Max Operating Temperature: 100°C; Packaging: Rail/Tube; RoHS Compliant: Yes; ComponentLink1URL: http://isocom.com/wp-content/uploads/2018/03/dd93208-small-tlp521-1_2-4-240817.pdf?src-supplier=Digi-Key; ComponentLink1Description: http://isocom.com/wp-content/uploads/2018/03/dd93208-small-tlp521-1_2-4-240817.pdf?src-supplier=Digi-Key; Supplier Part Number 1: TLP521-4XSM-ND
footprint MSOP254P1000X355-16N (SOP, 16-Leads, Body 4/58x6/50mm, Pitch 2/54mm, IPC Medium Density)
pins: 1 A, 2 K, 3 A, 4 K, 5 A, 6 K, 7 A, 8 K, 9 E, 10 C, 11 E, 12 C, 13 E, 14 C, 15 E, 16 C

## TPS7A1012PDSER
designator U?, comment Manufacturer Part Number: TPS7A1012PDSER  (hidden comment: IC REG LINEAR 1.2V 300MA 6WSON)
300mA Low VIN Low VOUT Ultra-Low Dropout Regulator 6-Pin WSON T/R; Manufacturer: Texas Instruments; Supplier 1: Digi-Key; RoHS: Yes; Category: Integrated Circuits (ICs); Stock 1: 3010; Pricing 1: 1=1/01000, 10=0/90700, 25=0/86080, 100=0/70700, 250=0/66092, 500=0/58406, 1000=0/50750 (USD); Supplier Part Number 1: 296-TPS7A1012PDSERCT-ND
footprint SON50P150X80-6N (SON, 6-Leads, Body 1/50x1/50mm, Pitch 0/50mm, IPC Medium Density)
pins: 1 OUT (out), 2 NC, 3 EN (in), 4 BIAS (power), 5 GND (power), 6 IN (power)

## TPS7A1125PDRVR
designator U?, comment Manufacturer Part Number: TPS7A1125PDRVR  (hidden comment: IC REG LINEAR 2.5V 500MA 6WSON)
LDO Regulator Positive 0.5V to 3V 0.5A 6-Pin WSON T/R; Manufacturer: Texas Instruments; Supplier 1: Digi-Key; RoHS: Yes; Category: Integrated Circuits (ICs); RoHS Compliant: Yes; Supplier Part Number 1: 296-52131-1-ND
footprint SON65P200X80_HS-7N (SON, 6-Leads, Body 2/00x2/00mm, Pitch 0/65mm, Thermal Pad 2/06x2/06mm, IPC Medium Density)
pins: 1 OUT (out), 2 NC, 3 EN (in), 4 BIAS (power), 5 GND (power), 6 IN (power), 7 GND (power)

## TPS7A1130PDRVT
designator U?, comment Manufacturer Part Number: TPS7A1130PDRVT  (hidden comment: IC REG LINEAR 3V 500MA 6WSON)
LDO Regulator Positive 3V 500mA 6-Pin WSON T/R; Manufacturer: Texas Instruments; Supplier 1: Digi-Key; Stock 1: 672; Pricing 1: 1=1/43000, 10=1/28200, 25=1/21680, 100=0/99960 (USD); ComponentLink1URL: https://octopart.com/click/track?ct=datasheets&hlid=32298214&ppid=95825416&sid=370&sig=054e486&src-supplier=TI+store; ComponentLink1Description: https://octopart.com/click/track?ct=datasheets&hlid=32298214&ppid=95825416&sid=370&sig=054e486&src-supplier=TI+store; ComponentLink2URL: https://sigma.octopart.com/101810328/technical_drawing/Texas-Instruments-TPS7A1130PDRVT.pdf?src-supplier=TI+store; ComponentLink2Description: https://sigma.octopart.com/101810328/technical_drawing/Texas-Instruments-TPS7A1130PDRVT.pdf?src-supplier=TI+store; Supplier Part Number 1: 296-50840-1-ND
footprint SON65P200X80_HS-7N (SON, 6-Leads, Body 2/00x2/00mm, Pitch 0/65mm, Thermal Pad 2/06x2/06mm, IPC Medium Density)
pins: 1 OUT (out), 2 NC, 3 EN (in), 4 BIAS (power), 5 GND (power), 6 IN (power), 7 GND (power)

## TPS7A4700RGWR
designator U?, comment Manufacturer Part Number: TPS7A4700RGWR  (hidden comment: IC REG LINEAR POS ADJ 1A 20VQFN)
IC REG LDO ADJ 1A 20VQFN; Manufacturer: Texas Instruments; Output Voltage: 20.5V; Number of Outputs: 1; Min Input Voltage: 3V; Dropout Voltage: 307mV; Max Input Voltage: 36V; Polarity: Positive; Min Output Voltage: 1.4V; Accuracy: 1%; Quiescent Current: 580uA; Output Type: Adjustable; Supplier 1: Digi-Key; RoHS: Yes; Category: Voltage Regulators - Linear; Mount: Surface Mount; Case/Package: VQFN; Number of Pins: 20; Contact Plating: Gold; Min Operating Temperature: -40°C; Max Operating Temperature: 125°C; Packaging: Tape and Reel; Output Current: 1A; Package Quantity: 3000; Max Output Current: 1A; Number of Regulators: 1; Min Current Limit: 1A; Max Output Voltage: 20.5V; Output Voltage Accuracy: 1%; Series: -; Radiation Hardening: No; REACH SVHC: No SVHC; Lead Free: Lead Free; RoHS Compliant: Yes; ComponentLink1URL: https://datasheet.ciiva.com/13010/tps7a4700-223593-13010164.pdf?src-supplier=Mouser; ComponentLink1Description: https://datasheet.ciiva.com/13010/tps7a4700-223593-13010164.pdf?src-supplier=Mouser; Supplier Part Number 1: 296-39503-1-ND
footprint QFN65P500X500X100_HS-21N (QFN, 20-Leads, Body 5/00x5/00mm, Pitch 0/65mm, Thermal Pad 3/15x3/15mm, IPC Medium Density)
pins: 1 OUT (power), 2 NC, 3 SENSE (in), 4 6P4V2 (power), 5 6P4V1 (power), 6 3P2V (power), 7 GND (power), 8 1P6V (power), 9 0P8V (power), 10 0P4V (power), 11 0P2V (power), 12 0P1V (power), 13 EN (in), 14 NR (in), 15 IN (power), 16 IN (power), 17 NC, 18 NC, 19 NC, 20 OUT (power), 21 PAD(GND) (power)

## UA78L05ACDR
designator U?, comment IC REG LINEAR 5V 100MA 8SOIC  Manufacturer Part Number: UA78L05ACDR
Linear Voltage Regulator IC Positive Fixed 1 Output 5V 100mA 8-SOIC; Manufacturer: Texas Instruments; Number of Outputs: 1; Dropout Voltage: 1.7V; Max Input Voltage: 20V; Min Input Voltage: 7V; Output Voltage Accuracy: 5%; Quiescent Current: 6mA; Power Supply Rejection Ratio (PSRR): 49dB; Supplier 1: Digi-Key; RoHS: Yes; Category: Voltage Regulators - Linear; Case/Package: D; Number of Pins: 8; Weight: 0.002561oz; Contact Plating: Gold; Min Operating Temperature: -40°C; Max Operating Temperature: 125°C; Nominal Output Voltage: 5V; Output Current: 100mA; Packaging: Tape and Reel; Output Voltage: 5V; Package Quantity: 2500; Max Output Current: 100mA; Polarity: Positive; Number of Regulators: 1; Min Output Voltage: 5V; Accuracy: 5%; Max Output Voltage: 5V; Output Type: Fixed; Series: -; Output Configuration: Positive; Length: 4.9mm; Width: 3.91mm; Height: 1.58mm; Radiation Hardening: No; Reach SVHC Compliant: Yes; Lead Free: Lead Free; RoHS Compliant: Yes; ComponentLink1URL: https://datasheet.ciiva.com/34301/764166-34301497.pdf?src-supplier=Jameco; ComponentLink1Description: https://datasheet.ciiva.com/34301/764166-34301497.pdf?src-supplier=Jameco; ComponentLink2URL: https://datasheet.ciiva.com/15111/getdatasheetpartid-86586-15111510.pdf?src-supplier=Verical; ComponentLink2Description: https://datasheet.ciiva.com/15111/getdatasheetpartid-86586-15111510.pdf?src-supplier=Verical; ComponentLink3URL: https://datasheet.ciiva.com/41463/001015168-da-01-en-ic-reg-ldo-5v-0-1-ua78l05acdr-soic-8-tid-41463011.pdf?src-supplier=Conrad; ComponentLink3Description: https://datasheet.ciiva.com/41463/001015168-da-01-en-ic-reg-ldo-5v-0-1-ua78l05acdr-soic-8-tid-41463011.pdf?src-supplier=Conrad; ComponentLink4URL: https://datasheet.ciiva.com/46429/1848990-46429884.pdf?src-supplier=Element14; ComponentLink4Description: https://datasheet.ciiva.com/46429/1848990-46429884.pdf?src-supplier=Element14; ComponentLink5URL: https://datasheet.ciiva.com/2041/ua78l05-2041768.pdf?src-supplier=Digi-Key; ComponentLink5Description: https://datasheet.ciiva.com/2041/ua78l05-2041768.pdf?src-supplier=Digi-Key; ComponentLink6URL: https://datasheet.ciiva.com/2041/ua78l05-2041767.pdf?src-supplier=Digi-Key; ComponentLink6Description: https://datasheet.ciiva.com/2041/ua78l05-2041767.pdf?src-supplier=Digi-Key; ComponentLink7URL: https://datasheet.ciiva.com/2041/ua78l05-2041769.pdf?src-supplier=Digi-Key; ComponentLink7Description: https://datasheet.ciiva.com/2041/ua78l05-2041769.pdf?src-supplier=Digi-Key; ComponentLink8URL: https://datasheet.ciiva.com/7992/1848990-7992569.pdf?src-supplier=Element14; ComponentLink8Description: https://datasheet.ciiva.com/7992/1848990-7992569.pdf?src-supplier=Element14; Supplier Part Number 1: 296-1364-1-ND
footprint SOIC127P600X175-8N (SOIC, 8-Leads, Body 4/89x3/90mm, Pitch 1/27mm, IPC Medium Density)
pins: 1 OUT, 2 COMMON, 3 COMMON, 4 NC (power), 5 NC (power), 6 COMMON (power), 7 COMMON (power), 8 INPUT (power)

## ULN2003ADR
designator U?
50-V, 7-ch darlington transistor array, -20C to 70C 16-SOIC -40 to 70; Manufacturer: Texas Instruments; Number of Elements: 7; Polarity: NPN; Collector Emitter Voltage (VCEO): 50V; Max Collector Current: 500mA; Collector Emitter Saturation Voltage: 1.1V; Supplier 1: Digi-Key; RoHS: Yes; Category: Interface ICs; Pricing 1: 1=0/56000, 10=0/48100, 100=0/35910, 500=0/28218, 1000=0/21804 (USD); Mount: Surface Mount; Case/Package: SOIC; Number of Pins: 16; Contact Plating: Gold; Weight: 0.004998oz; Min Operating Temperature: -20°C; Max Operating Temperature: 70°C; Package Quantity: 1; Packaging: Tape and Reel; Collector Emitter Breakdown Voltage: 50V; Voltage Rating (DC): 50V; Current Rating: 500mA; Number of Drivers: 7; Length: 9.9mm; Width: 3.91mm; Height: 1.58mm; Radiation Hardening: No; REACH SVHC: No SVHC; Lead Free: Lead Free; RoHS Compliant: Yes; ComponentLink1URL: https://datasheet.ciiva.com/27049/700605-27049624.pdf?src-supplier=Jameco; ComponentLink1Description: https://datasheet.ciiva.com/27049/700605-27049624.pdf?src-supplier=Jameco; ComponentLink2URL: https://datasheet.ciiva.com/15139/getdatasheetpartid-40508-15139849.pdf?src-supplier=Verical; ComponentLink2Description: https://datasheet.ciiva.com/15139/getdatasheetpartid-40508-15139849.pdf?src-supplier=Verical; ComponentLink3URL: https://datasheet.ciiva.com/1193/1851982-1193407.pdf?src-supplier=Element14; ComponentLink3Description: https://datasheet.ciiva.com/1193/1851982-1193407.pdf?src-supplier=Element14; ComponentLink4URL: https://datasheet.ciiva.com/46423/1831474-46423371.pdf?src-supplier=Element14; ComponentLink4Description: https://datasheet.ciiva.com/46423/1831474-46423371.pdf?src-supplier=Element14; ComponentLink5URL: https://datasheet.ciiva.com/1700/uln2003a-1700767.pdf?src-supplier=Digi-Key; ComponentLink5Description: https://datasheet.ciiva.com/1700/uln2003a-1700767.pdf?src-supplier=Digi-Key; ComponentLink6URL: https://datasheet.ciiva.com/1700/uln2003a-1700766.pdf?src-supplier=Digi-Key; ComponentLink6Description: https://datasheet.ciiva.com/1700/uln2003a-1700766.pdf?src-supplier=Digi-Key; ComponentLink7URL: https://datasheet.ciiva.com/1700/uln2003a-1700768.pdf?src-supplier=Digi-Key; ComponentLink7Description: https://datasheet.ciiva.com/1700/uln2003a-1700768.pdf?src-supplier=Digi-Key; ComponentLink8URL: https://datasheet.ciiva.com/14424/ulq2003a-14424061.pdf?src-supplier=Avnet; ComponentLink8Description: https://datasheet.ciiva.com/14424/ulq2003a-14424061.pdf?src-supplier=Avnet; ComponentLink9URL: https://datasheet.ciiva.com/26229/ulq2003a-26229797.pdf?src-supplier=Avnet+Europe; ComponentLink9Description: https://datasheet.ciiva.com/26229/ulq2003a-26229797.pdf?src-supplier=Avnet+Europe; Supplier Part Number 1: 296-1368-1-ND; Manufacturer Part Number: ULN2003ADR
footprint SOIC127P600X175-16N (SOIC, 16-Leads, Body 9/90x3/90mm, Pitch 1/27mm, IPC Medium Density)
pins: 1 IN1 (in), 2 IN2 (in), 3 IN3 (in), 4 IN4 (in), 5 IN5 (in), 6 IN6 (in), 7 IN7 (in), 8 GND (power), 9 COM (power), 10 OUT7 (oc), 11 OUT6 (oc), 12 OUT5 (oc), 13 OUT4 (oc), 14 OUT3 (oc), 15 OUT2 (oc), 16 OUT1 (oc)

## ULN2803ADWR
designator U?, comment Manufacturer Part Number: ULN2803ADWR  (hidden comment: TRANS 8NPN DARL 50V 0.5A 18SO)
8NPN Ic=500mA Vceo=50V; Manufacturer: Texas Instruments; Polarity: NPN; Max Collector Current: 500mA; Number of Elements: 8; Collector Emitter Saturation Voltage: 1.1V; Supplier 1: Digi-Key; RoHS: Yes; Category: Integrated Circuits (ICs); Pricing 1: 1=1/29000, 10=1/15700, 100=0/90210, 500=0/74518, 1000=0/64750 (USD); Mount: Surface Mount; Case/Package: SOIC; Number of Pins: 18; Contact Plating: Gold; Min Operating Temperature: -65°C; Max Operating Temperature: 150°C; Packaging: Tape and Reel; Package Quantity: 1; Collector Emitter Voltage (VCEO): 50V; Collector Emitter Breakdown Voltage: 50V; Voltage Rating (DC): 50V; Current Rating: 500mA; Number of Drivers: 8; Length: 11.62mm; Width: 7.52mm; Height: 2.35mm; Radiation Hardening: No; REACH SVHC: No SVHC; Lead Free: Lead Free; RoHS Compliant: Yes; ComponentLink1URL: https://datasheet.ciiva.com/1193/1696822-1193522.pdf?src-supplier=Element14; ComponentLink1Description: https://datasheet.ciiva.com/1193/1696822-1193522.pdf?src-supplier=Element14; ComponentLink2URL: https://datasheet.ciiva.com/27054/1927351-27054884.pdf?src-supplier=Jameco; ComponentLink2Description: https://datasheet.ciiva.com/27054/1927351-27054884.pdf?src-supplier=Jameco; ComponentLink3URL: https://datasheet.ciiva.com/15140/getdatasheetpartid-134747-15140033.pdf?src-supplier=Verical; ComponentLink3Description: https://datasheet.ciiva.com/15140/getdatasheetpartid-134747-15140033.pdf?src-supplier=Verical; ComponentLink4URL: https://datasheet.ciiva.com/22695/1887697-22695371.pdf?src-supplier=Element14; ComponentLink4Description: https://datasheet.ciiva.com/22695/1887697-22695371.pdf?src-supplier=Element14; ComponentLink5URL: https://datasheet.ciiva.com/22747/1887697-22747447.pdf?src-supplier=Element14; ComponentLink5Description: https://datasheet.ciiva.com/22747/1887697-22747447.pdf?src-supplier=Element14; ComponentLink6URL: https://datasheet.ciiva.com/46384/1887697-46384520.pdf?src-supplier=Element14; ComponentLink6Description: https://datasheet.ciiva.com/46384/1887697-46384520.pdf?src-supplier=Element14; ComponentLink7URL: https://datasheet.ciiva.com/1700/uln2803a-1700969.pdf?src-supplier=Digi-Key; ComponentLink7Description: https://datasheet.ciiva.com/1700/uln2803a-1700969.pdf?src-supplier=Digi-Key; ComponentLink8URL: https://datasheet.ciiva.com/1700/uln2803a-1700970.pdf?src-supplier=Digi-Key; ComponentLink8Description: https://datasheet.ciiva.com/1700/uln2803a-1700970.pdf?src-supplier=Digi-Key; ComponentLink9URL: https://datasheet.ciiva.com/1258/1696822-1258689.pdf?src-supplier=Newark; ComponentLink9Description: https://datasheet.ciiva.com/1258/1696822-1258689.pdf?src-supplier=Newark; ComponentLink10URL: https://datasheet.ciiva.com/14424/uln2803a-14424071.pdf?src-supplier=Avnet; ComponentLink10Description: https://datasheet.ciiva.com/14424/uln2803a-14424071.pdf?src-supplier=Avnet; Supplier Part Number 1: 296-15777-1-ND
footprint SOIC127P1030X265-18N (SOIC, 18-Leads, Body 11/55x7/50mm, Pitch 1/27mm, IPC Medium Density)
pins: 1 IN1 (in), 2 IN2 (in), 3 IN3 (in), 4 IN4 (in), 5 IN5 (in), 6 IN6 (in), 7 IN7 (in), 8 IN8 (in), 9 GND (power), 10 COM, 11 OUT8 (oc), 12 OUT7 (oc), 13 OUT6 (oc), 14 OUT5 (oc), 15 OUT4 (oc), 16 OUT3 (oc), 17 OUT2 (oc), 18 OUT1 (oc)

## USB3320C-EZK-TR
designator U?, comment Manufacturer Part Number: USB3320C-EZK-TR  (hidden comment: IC TRANSCEIVER HALF 1/1 32QFN)
1/1 Transceiver Half USB 2.0 32-QFN (5x5); Manufacturer: Microchip; Data Rate: 12Mbps; Interface: UART; Operating Supply Current: 18uA; ESD Protection: Yes; Number of Transceivers: 1; Operating Supply Voltage: 5.5V; Frequency: 60MHz; Simplex/Duplex: Half Duplex; Receiver Hysteresis: 50mV; Supplier 1: Digi-Key; RoHS: Yes; Category: USB Interface ICs; Case/Package: QFN; Number of Pins: 32; Weight: 0.006653oz; Min Operating Temperature: -40°C; Max Operating Temperature: 85°C; Package Quantity: 4000; Packaging: Tape and Reel; Series: *; Length: 5.1mm; Width: 5.1mm; Height: 0.95mm; Radiation Hardening: No; Lead Free: Lead Free; RoHS Compliant: Yes; ComponentLink1URL: http://www.farnell.com/datasheets/2244570.pdf?src-supplier=Farnell; ComponentLink1Description: http://www.farnell.com/datasheets/2244570.pdf?src-supplier=Farnell; ComponentLink2URL: http://uk.rs-online.com/webdocs/1344/0900766b81344e8a.pdf?src-supplier=RSComponents; ComponentLink2Description: http://uk.rs-online.com/webdocs/1344/0900766b81344e8a.pdf?src-supplier=RSComponents; ComponentLink3URL: http://www.farnell.com/datasheets/2244570.pdf?src-supplier=Newark; ComponentLink3Description: http://www.farnell.com/datasheets/2244570.pdf?src-supplier=Newark; ComponentLink4URL: http://www.farnell.com/datasheets/2244570.pdf?src-supplier=Element14; ComponentLink4Description: http://www.farnell.com/datasheets/2244570.pdf?src-supplier=Element14; ComponentLink5URL: http://www.microchip.com/mymicrochip/filehandler.aspx?ddocname=en562261&src-supplier=Allied+Electronics; ComponentLink5Description: http://www.microchip.com/mymicrochip/filehandler.aspx?ddocname=en562261&src-supplier=Allied+Electronics; ComponentLink6URL: http://www.microchip.com/mymicrochip/filehandler.aspx?ddocname=en562261&src-supplier=RSComponents; ComponentLink6Description: http://www.microchip.com/mymicrochip/filehandler.aspx?ddocname=en562261&src-supplier=RSComponents; ComponentLink7URL: http://www.microchip.com/mymicrochip/filehandler.aspx?ddocname=en562261&src-supplier=Mouser; ComponentLink7Description: http://www.microchip.com/mymicrochip/filehandler.aspx?ddocname=en562261&src-supplier=Mouser; Supplier Part Number 1: USB3320C-EZK-CT-ND
footprint QFN50P500X500X100_HS-33N (QFN, 32-Leads, Body 5/00x5/00mm, Pitch 0/50mm, Thermal Pad 3/45x3/45mm, IPC Medium Density)
pins: 1 CLKOUT (out), 2 NXT (out), 3 D0 (io), 4 D1 (io), 5 D2 (io), 6 D3 (io), 7 D4 (io), 8 REFSEL0 (in), 9 D5 (io), 10 D6 (io), 11 REFSEL1 (in), 12 NC, 13 D7 (io), 14 REFSEL2 (in), 15 SPK_L (io), 16 SPK_R (io), 17 CPEN (out), 18 DP (io), 19 DM (io), 20 VDD3.3 (power), 21 VBAT (power), 22 VBUS (io), 23 ID (in), 24 RBIAS (in), 25 XO (out), 26 REFCLK (in), 27 RESETB (in), 28 VDD1.8 (power), 29 STP (in), 30 VDD1.8 (power), 31 DIR (out), 32 VDDIO (power), 33 GNDPAD (power)

## W25Q32JVSSIQ
designator U?, comment IC FLASH 32MBIT SPI/QUAD 8SOIC  Manufacturer Part Number: W25Q32JVSSIQ
IC FLASH 32MBIT 133MHZ 8SOP; Manufacturer: Winbond; Memory Format: FLASH,NOR; Frequency: 104MHz; Interface: SPI,Serial; Density: 32MB; Operating Supply Voltage: 3V; Page Size: 256B; Min Supply Voltage: 2.7V; Max Supply Voltage: 3.6V; Supplier: Digi-Key; Supplier Part Number: W25Q32JVSSIQ-ND; RoHS: Yes; Category: Flash; Stock: 170942; Pricing: 1=0.78000, 10=0.71300, 25=0.70400, 50=0.69980, 100=0.62570, 250=0.62040, 500=0.61122, 1000=0.58935, 5000=0.53680 (USD); Mounting Technology: Surface Mount; Case/Package: SOIC; Pins: 8; Min Operating Temperature: -40°C; Max Operating Temperature: 85°C; Packaging: Tray; Lead Free: Lead Free; RoHS Compliant: Yes; ComponentLink1URL: https://www.winbond.com/hq/product/code-storage-flash-memory/serial-nor-flash/?__locale=en&partNo=W25Q32JV&src-supplier=Avnet; ComponentLink1Description: https://www.winbond.com/hq/product/code-storage-flash-memory/serial-nor-flash/?__locale=en&partNo=W25Q32JV&src-supplier=Avnet; ComponentLink2URL: http://www.winbond.com/resource-files/w25q32jv%20revg%2003272018%20plus.pdf?src-supplier=Digi-Key; ComponentLink2Description: http://www.winbond.com/resource-files/w25q32jv%20revg%2003272018%20plus.pdf?src-supplier=Digi-Key
footprint SOIC127P790X216-8N (SOIC, 8-Leads, Body 5.28x5.28mm, Pitch 1.27mm, IPC Medium Density)
pins: 1 ~{CS} (in), 2 DO(IO1) (io), 3 ~{WP}(IO2) (io), 4 VSS (power), 5 DI(IO0) (io), 6 CLK (in), 7 ~{HOLD/RESET}(IO3) (io), 8 VCC (power)

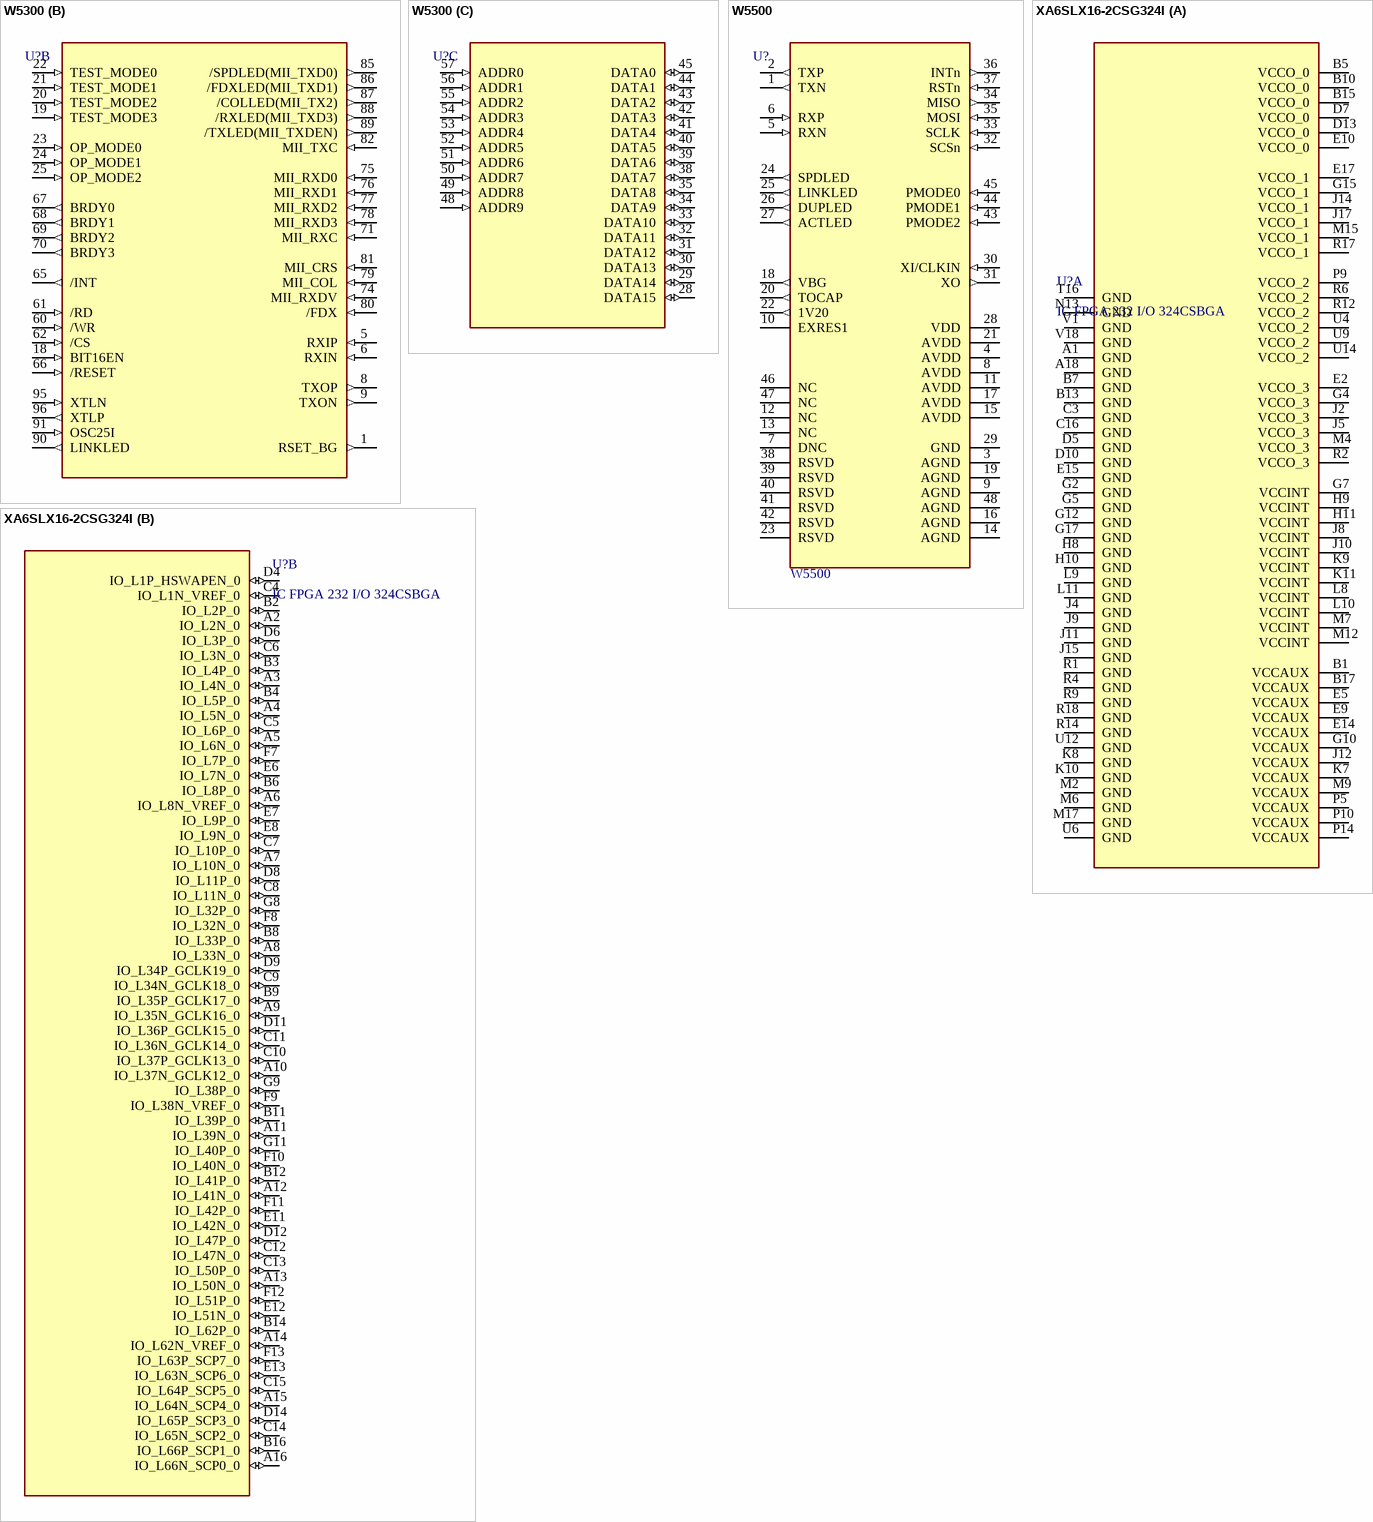
[diagram p11: symbols W5300 to XA6SLX16-2CSG324I]